# Altium schematic symbol library Interface_I2C.SchLib: 424 symbols (part 6 of 23)
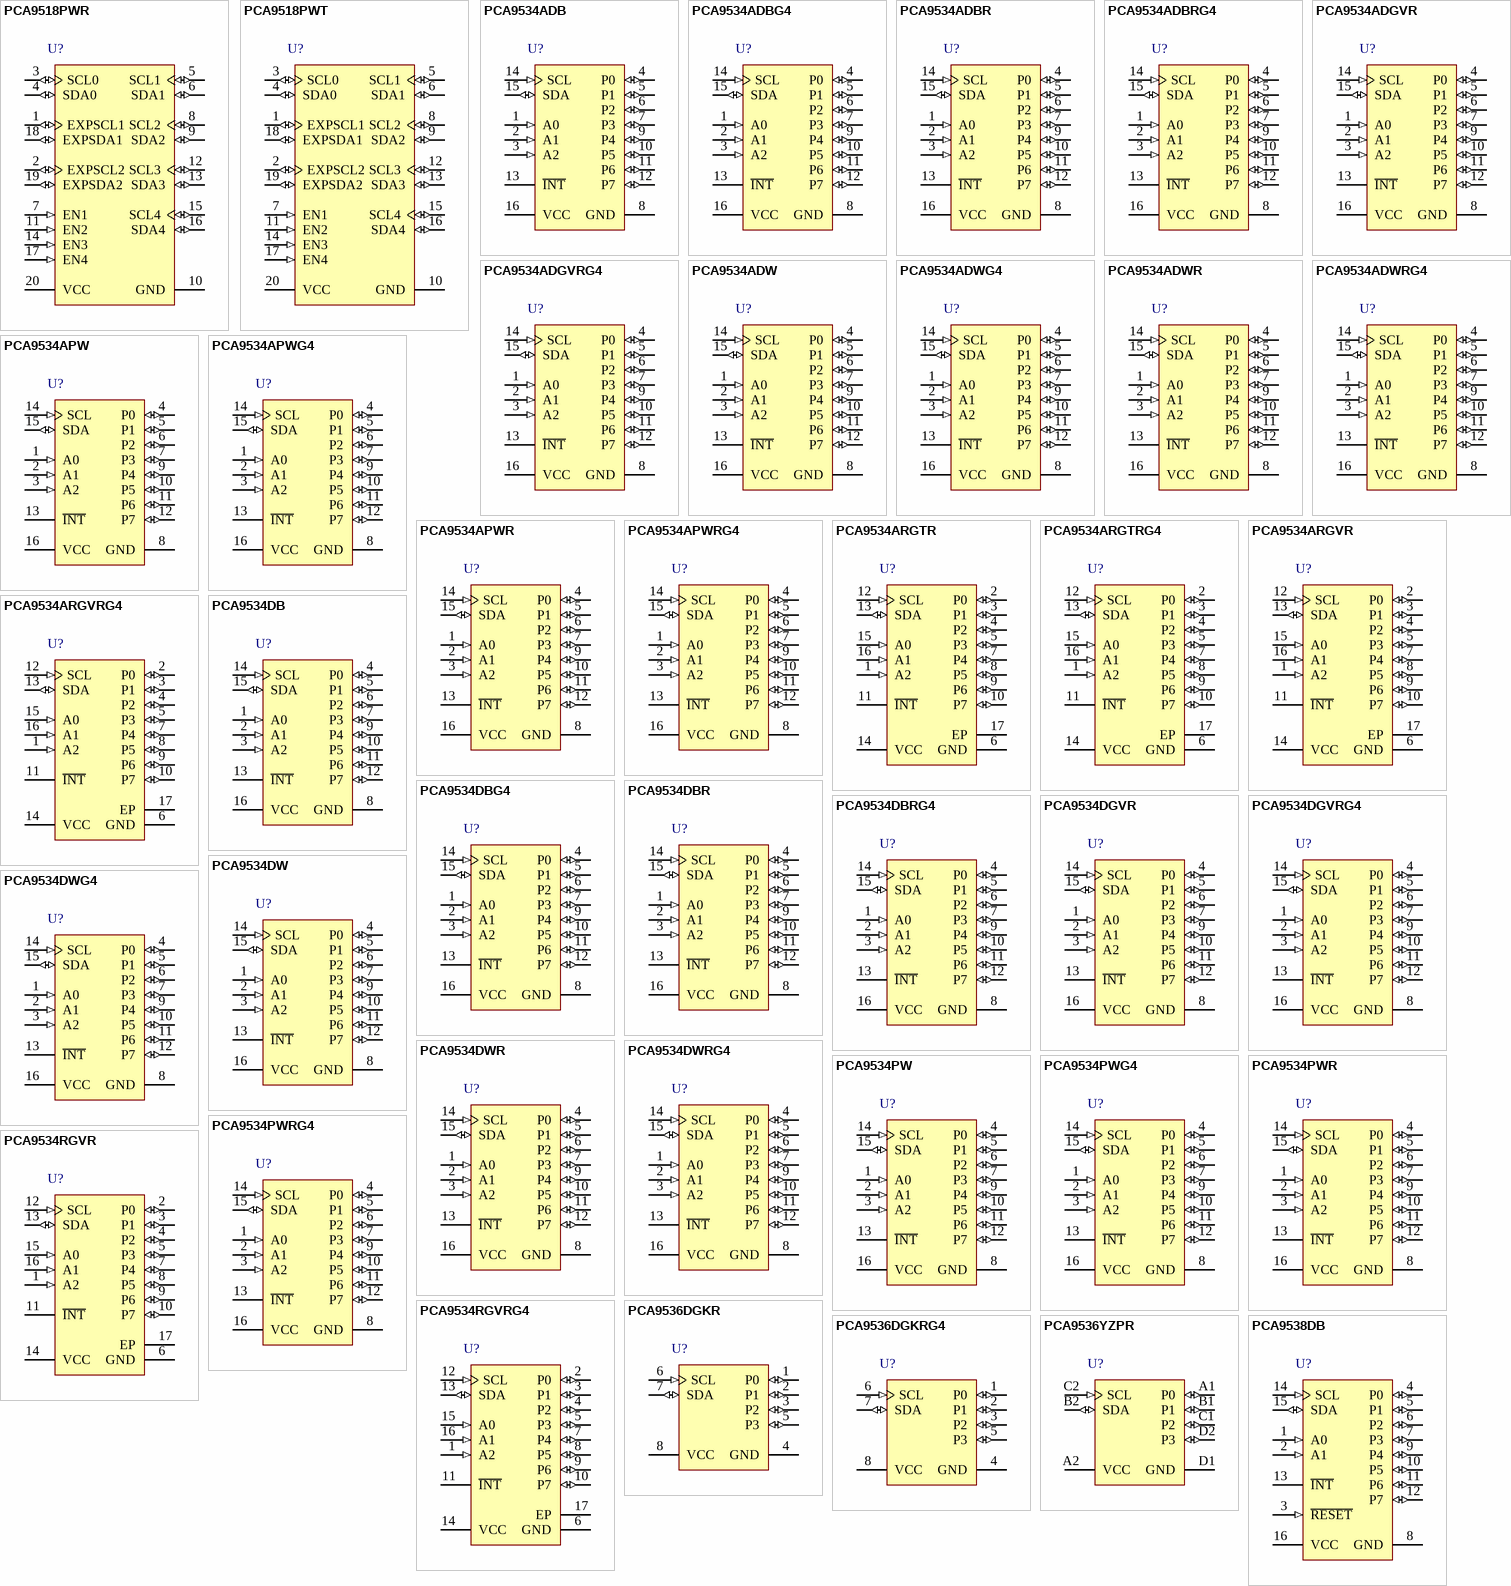
[diagram p18: symbols PCA9518PWR to PCA9538DB]

## PCA9536DGKRG4
designator U?
Remote 4-Bit I2C and SMBus I/O Expander with Configuration Registers, 2.3 to 5.5 V, -40 to 85 degC, 8-pin MSOP (DGK), Green (RoHS & no Sb/Br); Manufacturer: Texas Instruments; PartNumber: PCA9536DGKRG4; SubFamily: I2C IO Expander; fSCLK(Max)(MHz): 400; VCC(Min)(V): 2.3; VCC(Max)(V): 5.5; I2C Address: 1000 001; # of I/Os: 4; Configuration Registers: Yes; DatasheetVersion: SCPS125F; PackageVersion: revE, May-2006; PackageReference: DGK8; PackageDescription: 8-Pin Thin Small Outline Package 3 x 3 mm Body ,0.65 mm Pitch; Supplier 1: Digi-Key; Supplier Part Number 1: PCA9536DGKRG4-ND; Supplier 2: Newark; Supplier Part Number 2: 99K4102; Supplier 3: Mouser; Supplier Part Number 3: 595-PCA9536DGKRG4; Eco-Plan: Green (RoHS & no Sb/Br); Max Frequency(kHz): 400; Vcc range(V): 2.3 to 5.5; 5V Tolerant I/O: Yes; Push-Pull I/O Type: Yes; Mounting Technology: Surface Mount; Code_JEDEC: MO-187-AA; ComponentLink1Description: Datasheet; ComponentLink1URL: http://www.ti.com/general/docs/lit/getliterature.tsp?genericPartNumber=PCA9536&fileType=pdf; ComponentLink2Description: Package Specification; ComponentLink2URL: http://www.ti.com/litv/pdf/msoi002j
footprint DGK8_N (TSOP, 8-Leads, Body 3x3mm, Pitch 0.65mm, IPC Medium Density)
footprint DGK8_L (TSOP, 8-Leads, Body 3x3mm, Pitch 0.65mm, IPC High Density)
footprint DGK8_M (TSOP, 8-Leads, Body 3x3mm, Pitch 0.65mm, IPC Low Density)
pins: 1 P0 (io) "P-port input/output. Push-pull design structure.", 2 P1 (io) "P-port input/output. Push-pull design structure.", 3 P2 (io) "P-port input/output. Push-pull design structure.", 4 GND (power) "Ground", 5 P3 (io) "P-port input/output. Push-pull design structure.", 6 SCL (in) "Serial clock bus. Connect to VCC through a pullup resistor.", 7 SDA (io) "Serial data bus. Connect to VCC through a pullup resistor.", 8 VCC (power) "Supply voltage"

## PCA9536YZPR
designator U?
Remote 4-Bit I2C and SMBus I/O Expander with Configuration Register, 2.3 to 5.5 V, -40 to 85 degC, 8-pin DSBGA (YZP), Green (RoHS & no Sb/Br); Manufacturer: Texas Instruments; PartNumber: PCA9536YZPR; SubFamily: I2C IO Expander; fSCLK(Max)(MHz): 400; VCC(Min)(V): 2.3; VCC(Max)(V): 5.5; I2C Address: 1000 001; # of I/Os: 4; Configuration Registers: Yes; DatasheetVersion: SCPS125F; PackageVersion: revI, Feb-2012; PackageReference: YZP8; PackageDescription: 8-Ball Die-Size Ball Grid Array, 1.9 x 0.9 mm Body, 0.5 mm Pitch, Pb-Free; Supplier 1: Digi-Key; Supplier Part Number 1: 296-24732-2-ND; Supplier 2: Digi-Key; Supplier Part Number 2: 296-24732-1-ND; Supplier 3: Digi-Key; Supplier Part Number 3: 296-24732-6-ND; Supplier 4: Newark; Supplier Part Number 4: 99M5239; Supplier 5: Mouser; Supplier Part Number 5: 595-PCA9536YZPR; Eco-Plan: Green (RoHS & no Sb/Br); Max Frequency(kHz): 400; Vcc range(V): 2.3 to 5.5; 5V Tolerant I/O: Yes; Push-Pull I/O Type: Yes; Mounting Technology: Surface Mount; ComponentLink1Description: Datasheet; ComponentLink1URL: http://www.ti.com/general/docs/lit/getliterature.tsp?genericPartNumber=PCA9536&fileType=pdf; ComponentLink2Description: Package Specification; ComponentLink2URL: http://www.ti.com/litv/pdf/msoi002j
footprint YZP8 (BGA, 8-Leads, Body 1.9x0.9mm, Pitch 0.5mm)
pins: A1 P0 (io) "P-port input/output. Push-pull design structure.", A2 VCC (power) "Supply voltage", B1 P1 (io) "P-port input/output. Push-pull design structure.", B2 SDA (io) "Serial data bus. Connect to VCC through a pullup resistor.", C1 P2 (io) "P-port input/output. Push-pull design structure.", C2 SCL (in) "Serial clock bus. Connect to VCC through a pullup resistor.", D1 GND (power) "Ground", D2 P3 (io) "P-port input/output. Push-pull design structure."

## PCA9538DB
designator U?
Remote 8-Bit I2C and SMBus Low-Power I/O Expander with Interrupt Output, Reset, and Config Registers, 2.3 to 5.5 V, -40 to 85 degC, 16-pin SSOP (DB), Green (RoHS & no Sb/Br); Manufacturer: Texas Instruments; PartNumber: PCA9538DB; SubFamily: I2C IO Expander; Interrupt Output: Yes; Technology Family: I2C, SMBus; fSCLK(Max)(MHz): 0.1, 0.4; VCC(Min)(V): 2.3; VCC(Max)(V): 5.5; Max Frequency(kHz): 400; I2C Address: 1110 0xx; # of I/Os: 8; DatasheetVersion: SCPS126E; PackageVersion: revE, Dec-2001; PackageReference: DB16; PackageDescription: 16-Pin Plastic Small Outline Package, 6.2 x 5.3 mm Body, 0.65 mm Pitch; Supplier 1: Digi-Key; Supplier Part Number 1: PCA9538DB-ND; Supplier 2: Newark; Supplier Part Number 2: 18M7518; Supplier 3: Mouser; Supplier Part Number 3: 595-PCA9538DB; Eco-Plan: Green (RoHS & no Sb/Br); Reset Input: Yes; Vcc range(V): 2.3 to 5.5; Low Power: Yes; Configuration Registers: Yes; 5V Tolerant I/O: Yes; Push-Pull I/O Type: Yes; Mounting Technology: Surface Mount; Code_JEDEC: MO-150; ComponentLink1Description: Datasheet; ComponentLink1URL: http://www.ti.com/general/docs/lit/getliterature.tsp?genericPartNumber=PCA9538&fileType=pdf; ComponentLink2Description: Package Specification; ComponentLink2URL: http://www.ti.com/litv/pdf/msso002e
footprint DB16_N (SOP, 16-Leads, Body 6.2x5.3mm, Pitch 0.65mm, IPC Medium Density)
footprint DB16_L (SOP, 16-Leads, Body 6.2x5.3mm, Pitch 0.65mm, IPC High Density)
footprint DB16_M (SOP, 16-Leads, Body 6.2x5.3mm, Pitch 0.65mm, IPC Low Density)
pins: 1 A0 (in) "Address input. Connect directly to VCC or ground.", 2 A1 (in) "Address input. Connect directly to VCC or ground.", 3 ~{RESET} (in) "Active-low reset input. Connect to VCC  through a pullup resistor, if no active connection is used.", 4 P0 (io) "P-port input/output. Push-pull design structure.", 5 P1 (io) "P-port input/output. Push-pull design structure.", 6 P2 (io) "P-port input/output. Push-pull design structure.", 7 P3 (io) "P-port input/output. Push-pull design structure.", 8 GND (power) "Ground", 9 P4 (io) "P-port input/output. Push-pull design structure.", 10 P5 (io) "P-port input/output. Push-pull design structure.", 11 P6 (io) "P-port input/output. Push-pull design structure.", 12 P7 (io) "P-port input/output. Push-pull design structure.", 13 ~{INT} (oc) "Interrupt output. Connect to VCC through a pullup resistor.", 14 SCL (in) "Serial clock bus. Connect to VCC through a pullup resistor.", 15 SDA (io) "Serial data bus. Connect to VCC through a pullup resistor.", 16 VCC (power) "Supply voltage"

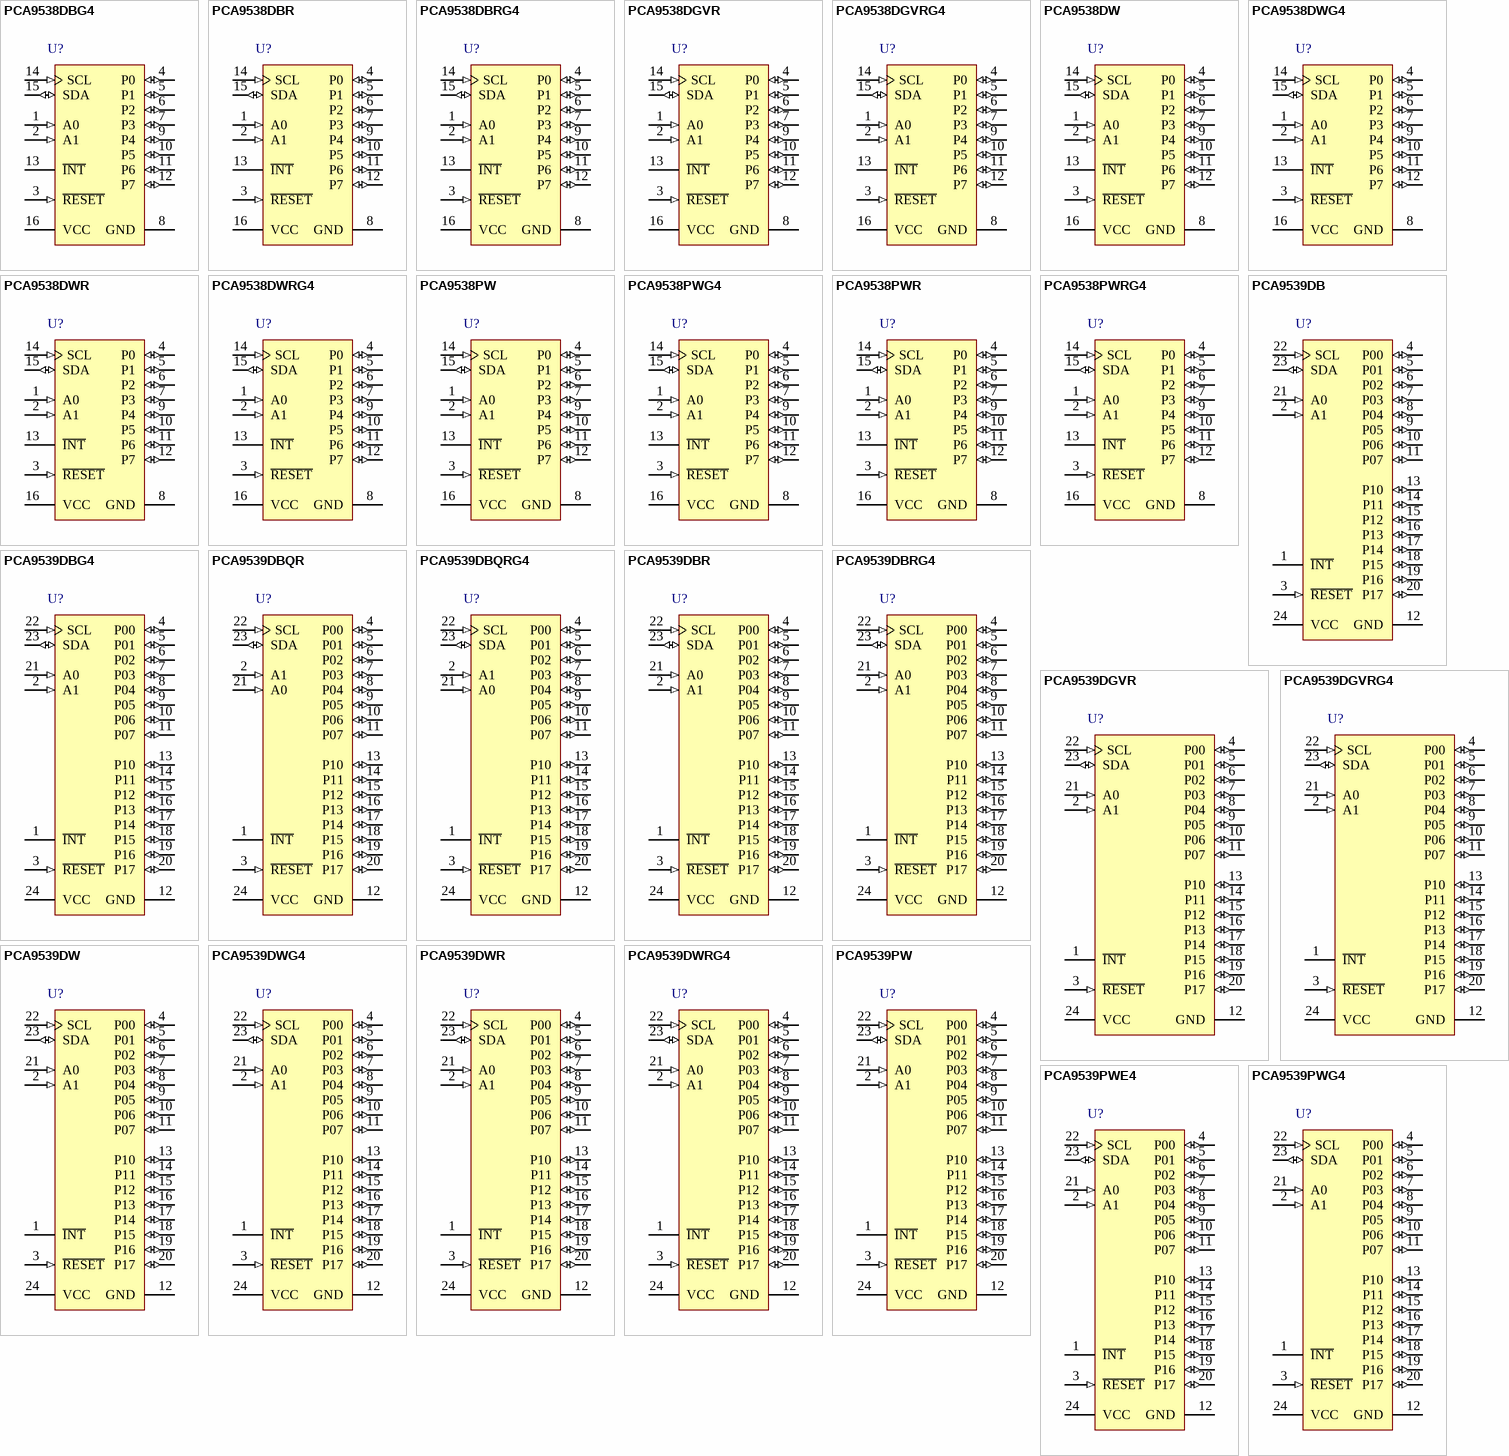
[diagram p3: symbols PCA9538DBG4 to PCA9539PWG4]

## PCA9538DBG4
designator U?
Remote 8-Bit I2C and SMBus Low-Power I/O Expander with Interrupt Output, Reset, and Config Registers, 2.3 to 5.5 V, -40 to 85 degC, 16-pin SSOP (DB), Green (RoHS & no Sb/Br); Manufacturer: Texas Instruments; PartNumber: PCA9538DBG4; SubFamily: I2C IO Expander; Interrupt Output: Yes; Technology Family: I2C, SMBus; fSCLK(Max)(MHz): 0.1, 0.4; VCC(Min)(V): 2.3; VCC(Max)(V): 5.5; Max Frequency(kHz): 400; I2C Address: 1110 0xx; # of I/Os: 8; DatasheetVersion: SCPS126E; PackageVersion: revE, Dec-2001; PackageReference: DB16; PackageDescription: 16-Pin Plastic Small Outline Package, 6.2 x 5.3 mm Body, 0.65 mm Pitch; Supplier 1: Digi-Key; Supplier Part Number 1: PCA9538DBG4-ND; Supplier 2: Mouser; Supplier Part Number 2: 595-PCA9538DBG4; Eco-Plan: Green (RoHS & no Sb/Br); Reset Input: Yes; Vcc range(V): 2.3 to 5.5; Low Power: Yes; Configuration Registers: Yes; 5V Tolerant I/O: Yes; Push-Pull I/O Type: Yes; Mounting Technology: Surface Mount; Code_JEDEC: MO-150; ComponentLink1Description: Datasheet; ComponentLink1URL: http://www.ti.com/general/docs/lit/getliterature.tsp?genericPartNumber=PCA9538&fileType=pdf; ComponentLink2Description: Package Specification; ComponentLink2URL: http://www.ti.com/litv/pdf/msso002e
footprint DB16_N (SOP, 16-Leads, Body 6.2x5.3mm, Pitch 0.65mm, IPC Medium Density)
footprint DB16_L (SOP, 16-Leads, Body 6.2x5.3mm, Pitch 0.65mm, IPC High Density)
footprint DB16_M (SOP, 16-Leads, Body 6.2x5.3mm, Pitch 0.65mm, IPC Low Density)
pins: 1 A0 (in) "Address input. Connect directly to VCC or ground.", 2 A1 (in) "Address input. Connect directly to VCC or ground.", 3 ~{RESET} (in) "Active-low reset input. Connect to VCC  through a pullup resistor, if no active connection is used.", 4 P0 (io) "P-port input/output. Push-pull design structure.", 5 P1 (io) "P-port input/output. Push-pull design structure.", 6 P2 (io) "P-port input/output. Push-pull design structure.", 7 P3 (io) "P-port input/output. Push-pull design structure.", 8 GND (power) "Ground", 9 P4 (io) "P-port input/output. Push-pull design structure.", 10 P5 (io) "P-port input/output. Push-pull design structure.", 11 P6 (io) "P-port input/output. Push-pull design structure.", 12 P7 (io) "P-port input/output. Push-pull design structure.", 13 ~{INT} (oc) "Interrupt output. Connect to VCC through a pullup resistor.", 14 SCL (in) "Serial clock bus. Connect to VCC through a pullup resistor.", 15 SDA (io) "Serial data bus. Connect to VCC through a pullup resistor.", 16 VCC (power) "Supply voltage"

## PCA9538DBR
designator U?
Remote 8-Bit I2C and SMBus Low-Power I/O Expander with Interrupt Output, Reset, and Config Registers, 2.3 to 5.5 V, -40 to 85 degC, 16-pin SSOP (DB), Green (RoHS & no Sb/Br); Manufacturer: Texas Instruments; PartNumber: PCA9538DBR; SubFamily: I2C IO Expander; Interrupt Output: Yes; Technology Family: I2C, SMBus; fSCLK(Max)(MHz): 0.1, 0.4; VCC(Min)(V): 2.3; VCC(Max)(V): 5.5; Max Frequency(kHz): 400; I2C Address: 1110 0xx; # of I/Os: 8; DatasheetVersion: SCPS126E; PackageVersion: revE, Dec-2001; PackageReference: DB16; PackageDescription: 16-Pin Plastic Small Outline Package, 6.2 x 5.3 mm Body, 0.65 mm Pitch; Supplier 1: Digi-Key; Supplier Part Number 1: 296-21766-2-ND; Supplier 2: Digi-Key; Supplier Part Number 2: 296-21766-1-ND; Supplier 3: Digi-Key; Supplier Part Number 3: 296-21766-6-ND; Supplier 4: Mouser; Supplier Part Number 4: 595-PCA9538DBR; Eco-Plan: Green (RoHS & no Sb/Br); Reset Input: Yes; Vcc range(V): 2.3 to 5.5; Low Power: Yes; Configuration Registers: Yes; 5V Tolerant I/O: Yes; Push-Pull I/O Type: Yes; Mounting Technology: Surface Mount; Code_JEDEC: MO-150; ComponentLink1Description: Datasheet; ComponentLink1URL: http://www.ti.com/general/docs/lit/getliterature.tsp?genericPartNumber=PCA9538&fileType=pdf; ComponentLink2Description: Package Specification; ComponentLink2URL: http://www.ti.com/litv/pdf/msso002e
footprint DB16_N (SOP, 16-Leads, Body 6.2x5.3mm, Pitch 0.65mm, IPC Medium Density)
footprint DB16_L (SOP, 16-Leads, Body 6.2x5.3mm, Pitch 0.65mm, IPC High Density)
footprint DB16_M (SOP, 16-Leads, Body 6.2x5.3mm, Pitch 0.65mm, IPC Low Density)
pins: 1 A0 (in) "Address input. Connect directly to VCC or ground.", 2 A1 (in) "Address input. Connect directly to VCC or ground.", 3 ~{RESET} (in) "Active-low reset input. Connect to VCC  through a pullup resistor, if no active connection is used.", 4 P0 (io) "P-port input/output. Push-pull design structure.", 5 P1 (io) "P-port input/output. Push-pull design structure.", 6 P2 (io) "P-port input/output. Push-pull design structure.", 7 P3 (io) "P-port input/output. Push-pull design structure.", 8 GND (power) "Ground", 9 P4 (io) "P-port input/output. Push-pull design structure.", 10 P5 (io) "P-port input/output. Push-pull design structure.", 11 P6 (io) "P-port input/output. Push-pull design structure.", 12 P7 (io) "P-port input/output. Push-pull design structure.", 13 ~{INT} (oc) "Interrupt output. Connect to VCC through a pullup resistor.", 14 SCL (in) "Serial clock bus. Connect to VCC through a pullup resistor.", 15 SDA (io) "Serial data bus. Connect to VCC through a pullup resistor.", 16 VCC (power) "Supply voltage"

## PCA9538DBRG4
designator U?
Remote 8-Bit I2C and SMBus Low-Power I/O Expander with Interrupt Output, Reset, and Config Registers, 2.3 to 5.5 V, -40 to 85 degC, 16-pin SSOP (DB), Green (RoHS & no Sb/Br); Manufacturer: Texas Instruments; PartNumber: PCA9538DBRG4; SubFamily: I2C IO Expander; Interrupt Output: Yes; Technology Family: I2C, SMBus; fSCLK(Max)(MHz): 0.1, 0.4; VCC(Min)(V): 2.3; VCC(Max)(V): 5.5; Max Frequency(kHz): 400; I2C Address: 1110 0xx; # of I/Os: 8; DatasheetVersion: SCPS126E; PackageVersion: revE, Dec-2001; PackageReference: DB16; PackageDescription: 16-Pin Plastic Small Outline Package, 6.2 x 5.3 mm Body, 0.65 mm Pitch; Supplier 1: Digi-Key; Supplier Part Number 1: PCA9538DBRG4-ND; Supplier 2: Mouser; Supplier Part Number 2: 595-PCA9538DBRG4; Eco-Plan: Green (RoHS & no Sb/Br); Reset Input: Yes; Vcc range(V): 2.3 to 5.5; Low Power: Yes; Configuration Registers: Yes; 5V Tolerant I/O: Yes; Push-Pull I/O Type: Yes; Mounting Technology: Surface Mount; Code_JEDEC: MO-150; ComponentLink1Description: Datasheet; ComponentLink1URL: http://www.ti.com/general/docs/lit/getliterature.tsp?genericPartNumber=PCA9538&fileType=pdf; ComponentLink2Description: Package Specification; ComponentLink2URL: http://www.ti.com/litv/pdf/msso002e
footprint DB16_N (SOP, 16-Leads, Body 6.2x5.3mm, Pitch 0.65mm, IPC Medium Density)
footprint DB16_L (SOP, 16-Leads, Body 6.2x5.3mm, Pitch 0.65mm, IPC High Density)
footprint DB16_M (SOP, 16-Leads, Body 6.2x5.3mm, Pitch 0.65mm, IPC Low Density)
pins: 1 A0 (in) "Address input. Connect directly to VCC or ground.", 2 A1 (in) "Address input. Connect directly to VCC or ground.", 3 ~{RESET} (in) "Active-low reset input. Connect to VCC  through a pullup resistor, if no active connection is used.", 4 P0 (io) "P-port input/output. Push-pull design structure.", 5 P1 (io) "P-port input/output. Push-pull design structure.", 6 P2 (io) "P-port input/output. Push-pull design structure.", 7 P3 (io) "P-port input/output. Push-pull design structure.", 8 GND (power) "Ground", 9 P4 (io) "P-port input/output. Push-pull design structure.", 10 P5 (io) "P-port input/output. Push-pull design structure.", 11 P6 (io) "P-port input/output. Push-pull design structure.", 12 P7 (io) "P-port input/output. Push-pull design structure.", 13 ~{INT} (oc) "Interrupt output. Connect to VCC through a pullup resistor.", 14 SCL (in) "Serial clock bus. Connect to VCC through a pullup resistor.", 15 SDA (io) "Serial data bus. Connect to VCC through a pullup resistor.", 16 VCC (power) "Supply voltage"

## PCA9538DGVR
designator U?
Remote 8-Bit I2C and SMBus Low-Power I/O Expander with Interrupt Output, Reset, and Config Registers, 2.3 to 5.5 V, -40 to 85 degC, 16-pin TVSOP (DGV), Green (RoHS & no Sb/Br); Manufacturer: Texas Instruments; PartNumber: PCA9538DGVR; SubFamily: I2C IO Expander; Interrupt Output: Yes; Technology Family: I2C, SMBus; fSCLK(Max)(MHz): 0.1, 0.4; VCC(Min)(V): 2.3; VCC(Max)(V): 5.5; Max Frequency(kHz): 400; I2C Address: 1110 0xx; # of I/Os: 8; DatasheetVersion: SCPS126E; PackageVersion: revE, Aug-2000; PackageReference: DGV16; PackageDescription: 16-Pin Thin Shrink Small Outline Package 0.4 mm Pitch; Supplier 1: Digi-Key; Supplier Part Number 1: 296-21767-2-ND; Supplier 2: Digi-Key; Supplier Part Number 2: 296-21767-1-ND; Supplier 3: Digi-Key; Supplier Part Number 3: 296-21767-6-ND; Supplier 4: Mouser; Supplier Part Number 4: 595-PCA9538DGVR; Eco-Plan: Green (RoHS & no Sb/Br); Reset Input: Yes; Vcc range(V): 2.3 to 5.5; Low Power: Yes; Configuration Registers: Yes; 5V Tolerant I/O: Yes; Push-Pull I/O Type: Yes; Mounting Technology: Surface Mount; Code_JEDEC: MO-194; ComponentLink1Description: Datasheet; ComponentLink1URL: http://www.ti.com/general/docs/lit/getliterature.tsp?genericPartNumber=PCA9538&fileType=pdf; ComponentLink2Description: Package Specification; ComponentLink2URL: http://www.ti.com/litv/pdf/msso002e
footprint DGV16_N (TSSOP, 16-Leads, Body 3.6x4.4mm, Pitch 0.4mm, IPC Medium Density)
footprint DGV16_L (TSSOP, 16-Leads, Body 3.6x4.4mm, Pitch 0.4mm, IPC High Density)
footprint DGV16_M (TSSOP, 16-Leads, Body 3.6x4.4mm, Pitch 0.4mm, IPC Low Density)
pins: 1 A0 (in) "Address input. Connect directly to VCC or ground.", 2 A1 (in) "Address input. Connect directly to VCC or ground.", 3 ~{RESET} (in) "Active-low reset input. Connect to VCC  through a pullup resistor, if no active connection is used.", 4 P0 (io) "P-port input/output. Push-pull design structure.", 5 P1 (io) "P-port input/output. Push-pull design structure.", 6 P2 (io) "P-port input/output. Push-pull design structure.", 7 P3 (io) "P-port input/output. Push-pull design structure.", 8 GND (power) "Ground", 9 P4 (io) "P-port input/output. Push-pull design structure.", 10 P5 (io) "P-port input/output. Push-pull design structure.", 11 P6 (io) "P-port input/output. Push-pull design structure.", 12 P7 (io) "P-port input/output. Push-pull design structure.", 13 ~{INT} (oc) "Interrupt output. Connect to VCC through a pullup resistor.", 14 SCL (in) "Serial clock bus. Connect to VCC through a pullup resistor.", 15 SDA (io) "Serial data bus. Connect to VCC through a pullup resistor.", 16 VCC (power) "Supply voltage"

## PCA9538DGVRG4
designator U?
Remote 8-Bit I2C and SMBus Low-Power I/O Expander with Interrupt Output, Reset, and Config Registers, 2.3 to 5.5 V, -40 to 85 degC, 16-pin TVSOP (DGV), Green (RoHS & no Sb/Br); Manufacturer: Texas Instruments; PartNumber: PCA9538DGVRG4; SubFamily: I2C IO Expander; Interrupt Output: Yes; Technology Family: I2C, SMBus; fSCLK(Max)(MHz): 0.1, 0.4; VCC(Min)(V): 2.3; VCC(Max)(V): 5.5; Max Frequency(kHz): 400; I2C Address: 1110 0xx; # of I/Os: 8; DatasheetVersion: SCPS126E; PackageVersion: revE, Aug-2000; PackageReference: DGV16; PackageDescription: 16-Pin Thin Shrink Small Outline Package 0.4 mm Pitch; Supplier 1: Digi-Key; Supplier Part Number 1: PCA9538DGVRG4-ND; Supplier 2: Mouser; Supplier Part Number 2: 595-PCA9538DGVRG4; Eco-Plan: Green (RoHS & no Sb/Br); Reset Input: Yes; Vcc range(V): 2.3 to 5.5; Low Power: Yes; Configuration Registers: Yes; 5V Tolerant I/O: Yes; Push-Pull I/O Type: Yes; Mounting Technology: Surface Mount; Code_JEDEC: MO-194; ComponentLink1Description: Datasheet; ComponentLink1URL: http://www.ti.com/general/docs/lit/getliterature.tsp?genericPartNumber=PCA9538&fileType=pdf; ComponentLink2Description: Package Specification; ComponentLink2URL: http://www.ti.com/litv/pdf/msso002e
footprint DGV16_N (TSSOP, 16-Leads, Body 3.6x4.4mm, Pitch 0.4mm, IPC Medium Density)
footprint DGV16_L (TSSOP, 16-Leads, Body 3.6x4.4mm, Pitch 0.4mm, IPC High Density)
footprint DGV16_M (TSSOP, 16-Leads, Body 3.6x4.4mm, Pitch 0.4mm, IPC Low Density)
pins: 1 A0 (in) "Address input. Connect directly to VCC or ground.", 2 A1 (in) "Address input. Connect directly to VCC or ground.", 3 ~{RESET} (in) "Active-low reset input. Connect to VCC  through a pullup resistor, if no active connection is used.", 4 P0 (io) "P-port input/output. Push-pull design structure.", 5 P1 (io) "P-port input/output. Push-pull design structure.", 6 P2 (io) "P-port input/output. Push-pull design structure.", 7 P3 (io) "P-port input/output. Push-pull design structure.", 8 GND (power) "Ground", 9 P4 (io) "P-port input/output. Push-pull design structure.", 10 P5 (io) "P-port input/output. Push-pull design structure.", 11 P6 (io) "P-port input/output. Push-pull design structure.", 12 P7 (io) "P-port input/output. Push-pull design structure.", 13 ~{INT} (oc) "Interrupt output. Connect to VCC through a pullup resistor.", 14 SCL (in) "Serial clock bus. Connect to VCC through a pullup resistor.", 15 SDA (io) "Serial data bus. Connect to VCC through a pullup resistor.", 16 VCC (power) "Supply voltage"

## PCA9538DW
designator U?
Remote 8-Bit I2C and SMBus Low-Power I/O Expander with Interrupt Output, Reset, and Config Registers, 2.3 to 5.5 V, -40 to 85 degC, 16-pin SOIC (DW), Green (RoHS & no Sb/Br); Manufacturer: Texas Instruments; PartNumber: PCA9538DW; SubFamily: I2C IO Expander; Interrupt Output: Yes; Technology Family: I2C, SMBus; fSCLK(Max)(MHz): 0.1, 0.4; VCC(Min)(V): 2.3; VCC(Max)(V): 5.5; Max Frequency(kHz): 400; I2C Address: 1110 0xx; # of I/Os: 8; DatasheetVersion: SCPS126E; PackageVersion: revG, Jan-2011; PackageReference: DW16; PackageDescription: 16-Pin Small Outline Integrated Circuit, 10.3 x 7.5 mm, Pitch 1.27 mm Pitch; Supplier 1: Digi-Key; Supplier Part Number 1: PCA9538DW-ND; Supplier 2: Farnell; Supplier Part Number 2: 1575006; Supplier 3: Newark; Supplier Part Number 3: 27M0461; Supplier 4: Mouser; Supplier Part Number 4: 595-PCA9538DW; Eco-Plan: Green (RoHS & no Sb/Br); Reset Input: Yes; Vcc range(V): 2.3 to 5.5; Low Power: Yes; Configuration Registers: Yes; 5V Tolerant I/O: Yes; Push-Pull I/O Type: Yes; Mounting Technology: Surface Mount; Code_JEDEC: MS-013-AA; ComponentLink1Description: Datasheet; ComponentLink1URL: http://www.ti.com/general/docs/lit/getliterature.tsp?genericPartNumber=PCA9538&fileType=pdf; ComponentLink2Description: Package Specification; ComponentLink2URL: http://www.ti.com/litv/pdf/msoi003g
footprint DW16_N (SOIC, 16-Leads, Body 10.3x7.5mm, Pitch 1.27mm, IPC Medium Density)
footprint DW16_L (SOIC, 16-Leads, Body 10.3x7.5mm, Pitch 1.27mm, IPC High Density)
footprint DW16_M (SOIC, 16-Leads, Body 10.3x7.5mm, Pitch 1.27mm, IPC Low Density)
pins: 1 A0 (in) "Address input. Connect directly to VCC or ground.", 2 A1 (in) "Address input. Connect directly to VCC or ground.", 3 ~{RESET} (in) "Active-low reset input. Connect to VCC  through a pullup resistor, if no active connection is used.", 4 P0 (io) "P-port input/output. Push-pull design structure.", 5 P1 (io) "P-port input/output. Push-pull design structure.", 6 P2 (io) "P-port input/output. Push-pull design structure.", 7 P3 (io) "P-port input/output. Push-pull design structure.", 8 GND (power) "Ground", 9 P4 (io) "P-port input/output. Push-pull design structure.", 10 P5 (io) "P-port input/output. Push-pull design structure.", 11 P6 (io) "P-port input/output. Push-pull design structure.", 12 P7 (io) "P-port input/output. Push-pull design structure.", 13 ~{INT} (oc) "Interrupt output. Connect to VCC through a pullup resistor.", 14 SCL (in) "Serial clock bus. Connect to VCC through a pullup resistor.", 15 SDA (io) "Serial data bus. Connect to VCC through a pullup resistor.", 16 VCC (power) "Supply voltage"

## PCA9538DWG4
designator U?
Remote 8-Bit I2C and SMBus Low-Power I/O Expander with Interrupt Output, Reset, and Config Registers, 2.3 to 5.5 V, -40 to 85 degC, 16-pin SOIC (DW), Green (RoHS & no Sb/Br); Manufacturer: Texas Instruments; PartNumber: PCA9538DWG4; SubFamily: I2C IO Expander; Interrupt Output: Yes; Technology Family: I2C, SMBus; fSCLK(Max)(MHz): 0.1, 0.4; VCC(Min)(V): 2.3; VCC(Max)(V): 5.5; Max Frequency(kHz): 400; I2C Address: 1110 0xx; # of I/Os: 8; DatasheetVersion: SCPS126E; PackageVersion: revG, Jan-2011; PackageReference: DW16; PackageDescription: 16-Pin Small Outline Integrated Circuit, 10.3 x 7.5 mm, Pitch 1.27 mm Pitch; Supplier 1: Digi-Key; Supplier Part Number 1: PCA9538DWG4-ND; Supplier 2: Mouser; Supplier Part Number 2: 595-PCA9538DWG4; Eco-Plan: Green (RoHS & no Sb/Br); Reset Input: Yes; Vcc range(V): 2.3 to 5.5; Low Power: Yes; Configuration Registers: Yes; 5V Tolerant I/O: Yes; Push-Pull I/O Type: Yes; Mounting Technology: Surface Mount; Code_JEDEC: MS-013-AA; ComponentLink1Description: Datasheet; ComponentLink1URL: http://www.ti.com/general/docs/lit/getliterature.tsp?genericPartNumber=PCA9538&fileType=pdf; ComponentLink2Description: Package Specification; ComponentLink2URL: http://www.ti.com/litv/pdf/msoi003g
footprint DW16_N (SOIC, 16-Leads, Body 10.3x7.5mm, Pitch 1.27mm, IPC Medium Density)
footprint DW16_L (SOIC, 16-Leads, Body 10.3x7.5mm, Pitch 1.27mm, IPC High Density)
footprint DW16_M (SOIC, 16-Leads, Body 10.3x7.5mm, Pitch 1.27mm, IPC Low Density)
pins: 1 A0 (in) "Address input. Connect directly to VCC or ground.", 2 A1 (in) "Address input. Connect directly to VCC or ground.", 3 ~{RESET} (in) "Active-low reset input. Connect to VCC  through a pullup resistor, if no active connection is used.", 4 P0 (io) "P-port input/output. Push-pull design structure.", 5 P1 (io) "P-port input/output. Push-pull design structure.", 6 P2 (io) "P-port input/output. Push-pull design structure.", 7 P3 (io) "P-port input/output. Push-pull design structure.", 8 GND (power) "Ground", 9 P4 (io) "P-port input/output. Push-pull design structure.", 10 P5 (io) "P-port input/output. Push-pull design structure.", 11 P6 (io) "P-port input/output. Push-pull design structure.", 12 P7 (io) "P-port input/output. Push-pull design structure.", 13 ~{INT} (oc) "Interrupt output. Connect to VCC through a pullup resistor.", 14 SCL (in) "Serial clock bus. Connect to VCC through a pullup resistor.", 15 SDA (io) "Serial data bus. Connect to VCC through a pullup resistor.", 16 VCC (power) "Supply voltage"

## PCA9538DWR
designator U?
Remote 8-Bit I2C and SMBus Low-Power I/O Expander with Interrupt Output, Reset, and Config Registers, 2.3 to 5.5 V, -40 to 85 degC, 16-pin SOIC (DW), Green (RoHS & no Sb/Br); Manufacturer: Texas Instruments; PartNumber: PCA9538DWR; SubFamily: I2C IO Expander; Interrupt Output: Yes; Technology Family: I2C, SMBus; fSCLK(Max)(MHz): 0.1, 0.4; VCC(Min)(V): 2.3; VCC(Max)(V): 5.5; Max Frequency(kHz): 400; I2C Address: 1110 0xx; # of I/Os: 8; DatasheetVersion: SCPS126E; PackageVersion: revG, Jan-2011; PackageReference: DW16; PackageDescription: 16-Pin Small Outline Integrated Circuit, 10.3 x 7.5 mm, Pitch 1.27 mm Pitch; Supplier 1: Digi-Key; Supplier Part Number 1: 296-21768-2-ND; Supplier 2: Digi-Key; Supplier Part Number 2: 296-21768-1-ND; Supplier 3: Digi-Key; Supplier Part Number 3: 296-21768-6-ND; Supplier 4: Farnell; Supplier Part Number 4: 1575007; Supplier 5: Mouser; Supplier Part Number 5: 595-PCA9538DWR; Eco-Plan: Green (RoHS & no Sb/Br); Reset Input: Yes; Vcc range(V): 2.3 to 5.5; Low Power: Yes; Configuration Registers: Yes; 5V Tolerant I/O: Yes; Push-Pull I/O Type: Yes; Mounting Technology: Surface Mount; Code_JEDEC: MS-013-AA; ComponentLink1Description: Datasheet; ComponentLink1URL: http://www.ti.com/general/docs/lit/getliterature.tsp?genericPartNumber=PCA9538&fileType=pdf; ComponentLink2Description: Package Specification; ComponentLink2URL: http://www.ti.com/litv/pdf/msoi003g
footprint DW16_N (SOIC, 16-Leads, Body 10.3x7.5mm, Pitch 1.27mm, IPC Medium Density)
footprint DW16_L (SOIC, 16-Leads, Body 10.3x7.5mm, Pitch 1.27mm, IPC High Density)
footprint DW16_M (SOIC, 16-Leads, Body 10.3x7.5mm, Pitch 1.27mm, IPC Low Density)
pins: 1 A0 (in) "Address input. Connect directly to VCC or ground.", 2 A1 (in) "Address input. Connect directly to VCC or ground.", 3 ~{RESET} (in) "Active-low reset input. Connect to VCC  through a pullup resistor, if no active connection is used.", 4 P0 (io) "P-port input/output. Push-pull design structure.", 5 P1 (io) "P-port input/output. Push-pull design structure.", 6 P2 (io) "P-port input/output. Push-pull design structure.", 7 P3 (io) "P-port input/output. Push-pull design structure.", 8 GND (power) "Ground", 9 P4 (io) "P-port input/output. Push-pull design structure.", 10 P5 (io) "P-port input/output. Push-pull design structure.", 11 P6 (io) "P-port input/output. Push-pull design structure.", 12 P7 (io) "P-port input/output. Push-pull design structure.", 13 ~{INT} (oc) "Interrupt output. Connect to VCC through a pullup resistor.", 14 SCL (in) "Serial clock bus. Connect to VCC through a pullup resistor.", 15 SDA (io) "Serial data bus. Connect to VCC through a pullup resistor.", 16 VCC (power) "Supply voltage"

## PCA9538DWRG4
designator U?
Remote 8-Bit I2C and SMBus Low-Power I/O Expander with Interrupt Output, Reset, and Config Registers, 2.3 to 5.5 V, -40 to 85 degC, 16-pin SOIC (DW), Green (RoHS & no Sb/Br); Manufacturer: Texas Instruments; PartNumber: PCA9538DWRG4; SubFamily: I2C IO Expander; Interrupt Output: Yes; Technology Family: I2C, SMBus; fSCLK(Max)(MHz): 0.1, 0.4; VCC(Min)(V): 2.3; VCC(Max)(V): 5.5; Max Frequency(kHz): 400; I2C Address: 1110 0xx; # of I/Os: 8; DatasheetVersion: SCPS126E; PackageVersion: revG, Jan-2011; PackageReference: DW16; PackageDescription: 16-Pin Small Outline Integrated Circuit, 10.3 x 7.5 mm, Pitch 1.27 mm Pitch; Supplier 1: Digi-Key; Supplier Part Number 1: PCA9538DWRG4-ND; Supplier 2: Mouser; Supplier Part Number 2: 595-PCA9538DWRG4; Eco-Plan: Green (RoHS & no Sb/Br); Reset Input: Yes; Vcc range(V): 2.3 to 5.5; Low Power: Yes; Configuration Registers: Yes; 5V Tolerant I/O: Yes; Push-Pull I/O Type: Yes; Mounting Technology: Surface Mount; Code_JEDEC: MS-013-AA; ComponentLink1Description: Datasheet; ComponentLink1URL: http://www.ti.com/general/docs/lit/getliterature.tsp?genericPartNumber=PCA9538&fileType=pdf; ComponentLink2Description: Package Specification; ComponentLink2URL: http://www.ti.com/litv/pdf/msoi003g
footprint DW16_N (SOIC, 16-Leads, Body 10.3x7.5mm, Pitch 1.27mm, IPC Medium Density)
footprint DW16_L (SOIC, 16-Leads, Body 10.3x7.5mm, Pitch 1.27mm, IPC High Density)
footprint DW16_M (SOIC, 16-Leads, Body 10.3x7.5mm, Pitch 1.27mm, IPC Low Density)
pins: 1 A0 (in) "Address input. Connect directly to VCC or ground.", 2 A1 (in) "Address input. Connect directly to VCC or ground.", 3 ~{RESET} (in) "Active-low reset input. Connect to VCC  through a pullup resistor, if no active connection is used.", 4 P0 (io) "P-port input/output. Push-pull design structure.", 5 P1 (io) "P-port input/output. Push-pull design structure.", 6 P2 (io) "P-port input/output. Push-pull design structure.", 7 P3 (io) "P-port input/output. Push-pull design structure.", 8 GND (power) "Ground", 9 P4 (io) "P-port input/output. Push-pull design structure.", 10 P5 (io) "P-port input/output. Push-pull design structure.", 11 P6 (io) "P-port input/output. Push-pull design structure.", 12 P7 (io) "P-port input/output. Push-pull design structure.", 13 ~{INT} (oc) "Interrupt output. Connect to VCC through a pullup resistor.", 14 SCL (in) "Serial clock bus. Connect to VCC through a pullup resistor.", 15 SDA (io) "Serial data bus. Connect to VCC through a pullup resistor.", 16 VCC (power) "Supply voltage"

## PCA9538PW
designator U?
Remote 8-Bit I2C and SMBus Low-Power I/O Expander with Interrupt Output, Reset, and Config Registers, 2.3 to 5.5 V, -40 to 85 degC, 16-pin TSSOP (PW), Green (RoHS & no Sb/Br); Manufacturer: Texas Instruments; PartNumber: PCA9538PW; SubFamily: I2C IO Expander; Interrupt Output: Yes; Technology Family: I2C, SMBus; fSCLK(Max)(MHz): 0.1, 0.4; VCC(Min)(V): 2.3; VCC(Max)(V): 5.5; Max Frequency(kHz): 400; I2C Address: 1110 0xx; # of I/Os: 8; DatasheetVersion: SCPS126E; PackageVersion: revG, Feb-2011; PackageReference: PW16; PackageDescription: 16-Pin Plastic Thin Small Outline Package 5 x 4.4 mm Body ,0.65 mm Pitch; Supplier 1: Digi-Key; Supplier Part Number 1: PCA9538PWTI-ND; Supplier 2: Farnell; Supplier Part Number 2: 2124836; Supplier 3: Newark; Supplier Part Number 3: 18M7521; Supplier 4: Mouser; Supplier Part Number 4: 595-PCA9538PW; Eco-Plan: Green (RoHS & no Sb/Br); Reset Input: Yes; Vcc range(V): 2.3 to 5.5; Low Power: Yes; Configuration Registers: Yes; 5V Tolerant I/O: Yes; Push-Pull I/O Type: Yes; Mounting Technology: Surface Mount; Code_JEDEC: MO-153; ComponentLink1Description: Datasheet; ComponentLink1URL: http://www.ti.com/general/docs/lit/getliterature.tsp?genericPartNumber=PCA9538&fileType=pdf
footprint PW16_N (TSOP, 16-Leads, Body 5x4.4mm, Pitch 0.65mm, IPC Medium Density)
footprint PW16_L (TSOP, 16-Leads, Body 5x4.4mm, Pitch 0.65mm, IPC High Density)
footprint PW16_M (TSOP, 16-Leads, Body 5x4.4mm, Pitch 0.65mm, IPC Low Density)
pins: 1 A0 (in) "Address input. Connect directly to VCC or ground.", 2 A1 (in) "Address input. Connect directly to VCC or ground.", 3 ~{RESET} (in) "Active-low reset input. Connect to VCC  through a pullup resistor, if no active connection is used.", 4 P0 (io) "P-port input/output. Push-pull design structure.", 5 P1 (io) "P-port input/output. Push-pull design structure.", 6 P2 (io) "P-port input/output. Push-pull design structure.", 7 P3 (io) "P-port input/output. Push-pull design structure.", 8 GND (power) "Ground", 9 P4 (io) "P-port input/output. Push-pull design structure.", 10 P5 (io) "P-port input/output. Push-pull design structure.", 11 P6 (io) "P-port input/output. Push-pull design structure.", 12 P7 (io) "P-port input/output. Push-pull design structure.", 13 ~{INT} (oc) "Interrupt output. Connect to VCC through a pullup resistor.", 14 SCL (in) "Serial clock bus. Connect to VCC through a pullup resistor.", 15 SDA (io) "Serial data bus. Connect to VCC through a pullup resistor.", 16 VCC (power) "Supply voltage"

## PCA9538PWG4
designator U?
Remote 8-Bit I2C and SMBus Low-Power I/O Expander with Interrupt Output, Reset, and Config Registers, 2.3 to 5.5 V, -40 to 85 degC, 16-pin TSSOP (PW), Green (RoHS & no Sb/Br); Manufacturer: Texas Instruments; PartNumber: PCA9538PWG4; SubFamily: I2C IO Expander; Interrupt Output: Yes; Technology Family: I2C, SMBus; fSCLK(Max)(MHz): 0.1, 0.4; VCC(Min)(V): 2.3; VCC(Max)(V): 5.5; Max Frequency(kHz): 400; I2C Address: 1110 0xx; # of I/Os: 8; DatasheetVersion: SCPS126E; PackageVersion: revG, Feb-2011; PackageReference: PW16; PackageDescription: 16-Pin Plastic Thin Small Outline Package 5 x 4.4 mm Body ,0.65 mm Pitch; Supplier 1: Digi-Key; Supplier Part Number 1: PCA9538PWG4-ND; Supplier 2: Newark; Supplier Part Number 2: 20M5688; Supplier 3: Mouser; Supplier Part Number 3: 595-PCA9538PWG4; Eco-Plan: Green (RoHS & no Sb/Br); Reset Input: Yes; Vcc range(V): 2.3 to 5.5; Low Power: Yes; Configuration Registers: Yes; 5V Tolerant I/O: Yes; Push-Pull I/O Type: Yes; Mounting Technology: Surface Mount; Code_JEDEC: MO-153; ComponentLink1Description: Datasheet; ComponentLink1URL: http://www.ti.com/general/docs/lit/getliterature.tsp?genericPartNumber=PCA9538&fileType=pdf
footprint PW16_N (TSOP, 16-Leads, Body 5x4.4mm, Pitch 0.65mm, IPC Medium Density)
footprint PW16_L (TSOP, 16-Leads, Body 5x4.4mm, Pitch 0.65mm, IPC High Density)
footprint PW16_M (TSOP, 16-Leads, Body 5x4.4mm, Pitch 0.65mm, IPC Low Density)
pins: 1 A0 (in) "Address input. Connect directly to VCC or ground.", 2 A1 (in) "Address input. Connect directly to VCC or ground.", 3 ~{RESET} (in) "Active-low reset input. Connect to VCC  through a pullup resistor, if no active connection is used.", 4 P0 (io) "P-port input/output. Push-pull design structure.", 5 P1 (io) "P-port input/output. Push-pull design structure.", 6 P2 (io) "P-port input/output. Push-pull design structure.", 7 P3 (io) "P-port input/output. Push-pull design structure.", 8 GND (power) "Ground", 9 P4 (io) "P-port input/output. Push-pull design structure.", 10 P5 (io) "P-port input/output. Push-pull design structure.", 11 P6 (io) "P-port input/output. Push-pull design structure.", 12 P7 (io) "P-port input/output. Push-pull design structure.", 13 ~{INT} (oc) "Interrupt output. Connect to VCC through a pullup resistor.", 14 SCL (in) "Serial clock bus. Connect to VCC through a pullup resistor.", 15 SDA (io) "Serial data bus. Connect to VCC through a pullup resistor.", 16 VCC (power) "Supply voltage"

## PCA9538PWR
designator U?
Remote 8-Bit I2C and SMBus Low-Power I/O Expander with Interrupt Output, Reset, and Config Registers, 2.3 to 5.5 V, -40 to 85 degC, 16-pin TSSOP (PW), Green (RoHS & no Sb/Br); Manufacturer: Texas Instruments; PartNumber: PCA9538PWR; SubFamily: I2C IO Expander; Interrupt Output: Yes; Technology Family: I2C, SMBus; fSCLK(Max)(MHz): 0.1, 0.4; VCC(Min)(V): 2.3; VCC(Max)(V): 5.5; Max Frequency(kHz): 400; I2C Address: 1110 0xx; # of I/Os: 8; DatasheetVersion: SCPS126E; PackageVersion: revG, Feb-2011; PackageReference: PW16; PackageDescription: 16-Pin Plastic Thin Small Outline Package 5 x 4.4 mm Body ,0.65 mm Pitch; Supplier 1: Digi-Key; Supplier Part Number 1: 296-21769-2-ND; Supplier 2: Digi-Key; Supplier Part Number 2: 296-21769-1-ND; Supplier 3: Digi-Key; Supplier Part Number 3: 296-21769-6-ND; Supplier 4: Newark; Supplier Part Number 4: 18M7522; Supplier 5: Mouser; Supplier Part Number 5: 595-PCA9538PWR; Eco-Plan: Green (RoHS & no Sb/Br); Reset Input: Yes; Vcc range(V): 2.3 to 5.5; Low Power: Yes; Configuration Registers: Yes; 5V Tolerant I/O: Yes; Push-Pull I/O Type: Yes; Mounting Technology: Surface Mount; Code_JEDEC: MO-153; ComponentLink1Description: Datasheet; ComponentLink1URL: http://www.ti.com/general/docs/lit/getliterature.tsp?genericPartNumber=PCA9538&fileType=pdf
footprint PW16_N (TSOP, 16-Leads, Body 5x4.4mm, Pitch 0.65mm, IPC Medium Density)
footprint PW16_L (TSOP, 16-Leads, Body 5x4.4mm, Pitch 0.65mm, IPC High Density)
footprint PW16_M (TSOP, 16-Leads, Body 5x4.4mm, Pitch 0.65mm, IPC Low Density)
pins: 1 A0 (in) "Address input. Connect directly to VCC or ground.", 2 A1 (in) "Address input. Connect directly to VCC or ground.", 3 ~{RESET} (in) "Active-low reset input. Connect to VCC  through a pullup resistor, if no active connection is used.", 4 P0 (io) "P-port input/output. Push-pull design structure.", 5 P1 (io) "P-port input/output. Push-pull design structure.", 6 P2 (io) "P-port input/output. Push-pull design structure.", 7 P3 (io) "P-port input/output. Push-pull design structure.", 8 GND (power) "Ground", 9 P4 (io) "P-port input/output. Push-pull design structure.", 10 P5 (io) "P-port input/output. Push-pull design structure.", 11 P6 (io) "P-port input/output. Push-pull design structure.", 12 P7 (io) "P-port input/output. Push-pull design structure.", 13 ~{INT} (oc) "Interrupt output. Connect to VCC through a pullup resistor.", 14 SCL (in) "Serial clock bus. Connect to VCC through a pullup resistor.", 15 SDA (io) "Serial data bus. Connect to VCC through a pullup resistor.", 16 VCC (power) "Supply voltage"

## PCA9538PWRG4
designator U?
Remote 8-Bit I2C and SMBus Low-Power I/O Expander with Interrupt Output, Reset, and Config Registers, 2.3 to 5.5 V, -40 to 85 degC, 16-pin TSSOP (PW), Green (RoHS & no Sb/Br); Manufacturer: Texas Instruments; PartNumber: PCA9538PWRG4; SubFamily: I2C IO Expander; Interrupt Output: Yes; Technology Family: I2C, SMBus; fSCLK(Max)(MHz): 0.1, 0.4; VCC(Min)(V): 2.3; VCC(Max)(V): 5.5; Max Frequency(kHz): 400; I2C Address: 1110 0xx; # of I/Os: 8; DatasheetVersion: SCPS126E; PackageVersion: revG, Feb-2011; PackageReference: PW16; PackageDescription: 16-Pin Plastic Thin Small Outline Package 5 x 4.4 mm Body ,0.65 mm Pitch; Supplier 1: Digi-Key; Supplier Part Number 1: PCA9538PWRG4-ND; Supplier 2: Newark; Supplier Part Number 2: 20M5689; Supplier 3: Mouser; Supplier Part Number 3: 595-PCA9538PWRG4; Eco-Plan: Green (RoHS & no Sb/Br); Reset Input: Yes; Vcc range(V): 2.3 to 5.5; Low Power: Yes; Configuration Registers: Yes; 5V Tolerant I/O: Yes; Push-Pull I/O Type: Yes; Mounting Technology: Surface Mount; Code_JEDEC: MO-153; ComponentLink1Description: Datasheet; ComponentLink1URL: http://www.ti.com/general/docs/lit/getliterature.tsp?genericPartNumber=PCA9538&fileType=pdf
footprint PW16_N (TSOP, 16-Leads, Body 5x4.4mm, Pitch 0.65mm, IPC Medium Density)
footprint PW16_L (TSOP, 16-Leads, Body 5x4.4mm, Pitch 0.65mm, IPC High Density)
footprint PW16_M (TSOP, 16-Leads, Body 5x4.4mm, Pitch 0.65mm, IPC Low Density)
pins: 1 A0 (in) "Address input. Connect directly to VCC or ground.", 2 A1 (in) "Address input. Connect directly to VCC or ground.", 3 ~{RESET} (in) "Active-low reset input. Connect to VCC  through a pullup resistor, if no active connection is used.", 4 P0 (io) "P-port input/output. Push-pull design structure.", 5 P1 (io) "P-port input/output. Push-pull design structure.", 6 P2 (io) "P-port input/output. Push-pull design structure.", 7 P3 (io) "P-port input/output. Push-pull design structure.", 8 GND (power) "Ground", 9 P4 (io) "P-port input/output. Push-pull design structure.", 10 P5 (io) "P-port input/output. Push-pull design structure.", 11 P6 (io) "P-port input/output. Push-pull design structure.", 12 P7 (io) "P-port input/output. Push-pull design structure.", 13 ~{INT} (oc) "Interrupt output. Connect to VCC through a pullup resistor.", 14 SCL (in) "Serial clock bus. Connect to VCC through a pullup resistor.", 15 SDA (io) "Serial data bus. Connect to VCC through a pullup resistor.", 16 VCC (power) "Supply voltage"

## PCA9539DB
designator U?
Remote 16-Bit I2C and SMBus, Low-Power I/O Expander with Interrupt Output, Reset & Config. Registers, 2.3 to 5.5 V, -40 to 85 degC, 24-pin SSOP (DB), Green (RoHS & no Sb/Br); Manufacturer: Texas Instruments; PartNumber: PCA9539DB; SubFamily: I2C IO Expander; No. of Outputs: 2; Interrupt Output: Yes; fSCLK(Max)(MHz): 400; VCC(Min)(V): 2.3; VCC(Max)(V): 5.5; I2C Address: 1110 1xx; # of I/Os: 16; DatasheetVersion: SCPS130F; PackageVersion: revE, Dec-2001; PackageReference: DB24; PackageDescription: 24-Pin Plastic Small Outline Package, 8.2 x 5.3 mm Body, 0.65 mm Pitch; Supplier 1: Digi-Key; Supplier Part Number 1: PCA9539DB-ND; Supplier 2: Mouser; Supplier Part Number 2: 595-PCA9539DB; Eco-Plan: Green (RoHS & no Sb/Br); Reset Input: Yes; Max Frequency(kHz): 400; Vcc range(V): 2.3 to 5.5; Low Power: Yes; Configuration Registers: Yes; 5V Tolerant I/O: Yes; Push-Pull I/O Type: Yes; Mounting Technology: Surface Mount; Code_JEDEC: MO-150; ComponentLink1Description: Datasheet; ComponentLink1URL: http://www.ti.com/general/docs/lit/getliterature.tsp?genericPartNumber=PCA9539&fileType=pdf; ComponentLink2Description: Package Specification; ComponentLink2URL: http://www.ti.com/litv/pdf/msso002e
footprint DB24_N (SOP, 24-Leads, Body 8.2x5.3mm, Pitch 0.65mm, IPC Medium Density)
footprint DB24_L (SOP, 24-Leads, Body 8.2x5.3mm, Pitch 0.65mm, IPC High Density)
footprint DB24_M (SOP, 24-Leads, Body 8.2x5.3mm, Pitch 0.65mm, IPC Low Density)
pins: 1 ~{INT} (oc) "Interrupt output. Connect to VCC through a pullup resistor.", 2 A1 (in) "Address input. Connect directly to VCC or ground.", 3 ~{RESET} (in) "Active-low reset input. Connect to VCC through a pullup resistor if no active connection is used.", 4 P00 (io) "P-port input/output. Push-pull design structure", 5 P01 (io) "P-port input/output. Push-pull design structure.", 6 P02 (io) "P-port input/output. Push-pull design structure.", 7 P03 (io) "P-port input/output. Push-pull design structure.", 8 P04 (io) "P-port input/output. Push-pull design structure.", 9 P05 (io) "P-port input/output. Push-pull design structure.", 10 P06 (io) "P-port input/output. Push-pull design structure.", 11 P07 (io) "P-port input/output. Push-pull design structure.", 12 GND (power) "Ground", 13 P10 (io) "P-port input/output. Push-pull design structure.", 14 P11 (io) "P-port input/output. Push-pull design structure.", 15 P12 (io) "P-port input/output. Push-pull design structure.", 16 P13 (io) "P-port input/output. Push-pull design structure.", 17 P14 (io) "P-port input/output. Push-pull design structure.", 18 P15 (io) "P-port input/output. Push-pull design structure.", 19 P16 (io) "P-port input/output. Push-pull design structure.", 20 P17 (io) "P-port input/output. Push-pull design structure.", 21 A0 (in) "Address input. Connect directly to VCC or ground.", 22 SCL (in) "Serial clock bus. Connect to VCC through a pullup resistor", 23 SDA (io) "Serial data bus. Connect to VCC through a pullup resistor.", 24 VCC (power) "Supply voltage"

## PCA9539DBG4
designator U?
Remote 16-Bit I2C and SMBus, Low-Power I/O Expander with Interrupt Output, Reset & Config. Registers, 2.3 to 5.5 V, -40 to 85 degC, 24-pin SSOP (DB), Green (RoHS & no Sb/Br); Manufacturer: Texas Instruments; PartNumber: PCA9539DBG4; SubFamily: I2C IO Expander; No. of Outputs: 2; Interrupt Output: Yes; fSCLK(Max)(MHz): 400; VCC(Min)(V): 2.3; VCC(Max)(V): 5.5; I2C Address: 1110 1xx; # of I/Os: 16; DatasheetVersion: SCPS130F; PackageVersion: revE, Dec-2001; PackageReference: DB24; PackageDescription: 24-Pin Plastic Small Outline Package, 8.2 x 5.3 mm Body, 0.65 mm Pitch; Supplier 1: Digi-Key; Supplier Part Number 1: PCA9539DBG4-ND; Supplier 2: Mouser; Supplier Part Number 2: 595-PCA9539DBG4; Eco-Plan: Green (RoHS & no Sb/Br); Reset Input: Yes; Max Frequency(kHz): 400; Vcc range(V): 2.3 to 5.5; Low Power: Yes; Configuration Registers: Yes; 5V Tolerant I/O: Yes; Push-Pull I/O Type: Yes; Mounting Technology: Surface Mount; Code_JEDEC: MO-150; ComponentLink1Description: Datasheet; ComponentLink1URL: http://www.ti.com/general/docs/lit/getliterature.tsp?genericPartNumber=PCA9539&fileType=pdf; ComponentLink2Description: Package Specification; ComponentLink2URL: http://www.ti.com/litv/pdf/msso002e
footprint DB24_N (SOP, 24-Leads, Body 8.2x5.3mm, Pitch 0.65mm, IPC Medium Density)
footprint DB24_L (SOP, 24-Leads, Body 8.2x5.3mm, Pitch 0.65mm, IPC High Density)
footprint DB24_M (SOP, 24-Leads, Body 8.2x5.3mm, Pitch 0.65mm, IPC Low Density)
pins: 1 ~{INT} (oc) "Interrupt output. Connect to VCC through a pullup resistor.", 2 A1 (in) "Address input. Connect directly to VCC or ground.", 3 ~{RESET} (in) "Active-low reset input. Connect to VCC through a pullup resistor if no active connection is used.", 4 P00 (io) "P-port input/output. Push-pull design structure", 5 P01 (io) "P-port input/output. Push-pull design structure.", 6 P02 (io) "P-port input/output. Push-pull design structure.", 7 P03 (io) "P-port input/output. Push-pull design structure.", 8 P04 (io) "P-port input/output. Push-pull design structure.", 9 P05 (io) "P-port input/output. Push-pull design structure.", 10 P06 (io) "P-port input/output. Push-pull design structure.", 11 P07 (io) "P-port input/output. Push-pull design structure.", 12 GND (power) "Ground", 13 P10 (io) "P-port input/output. Push-pull design structure.", 14 P11 (io) "P-port input/output. Push-pull design structure.", 15 P12 (io) "P-port input/output. Push-pull design structure.", 16 P13 (io) "P-port input/output. Push-pull design structure.", 17 P14 (io) "P-port input/output. Push-pull design structure.", 18 P15 (io) "P-port input/output. Push-pull design structure.", 19 P16 (io) "P-port input/output. Push-pull design structure.", 20 P17 (io) "P-port input/output. Push-pull design structure.", 21 A0 (in) "Address input. Connect directly to VCC or ground.", 22 SCL (in) "Serial clock bus. Connect to VCC through a pullup resistor", 23 SDA (io) "Serial data bus. Connect to VCC through a pullup resistor.", 24 VCC (power) "Supply voltage"

## PCA9539DBQR
designator U?
Remote 16-Bit I2C and SMBus, Low-Power I/O Expander with Interrupt Output, Reset & Config. Register, 2.3 to 5.5 V, -40 to 85 degC, 24-pin SSOP (DBQ), Green (RoHS & no Sb/Br); Manufacturer: Texas Instruments; PartNumber: PCA9539DBQR; SubFamily: I2C IO Expander; No. of Outputs: 2; Interrupt Output: Yes; fSCLK(Max)(MHz): 400; VCC(Min)(V): 2.3; VCC(Max)(V): 5.5; I2C Address: 1110 1xx; # of I/Os: 16; DatasheetVersion: SCPS130F; PackageVersion: revH, Oct-2008; PackageReference: DBQ24; PackageDescription: 24-Pin Small Outline Package 0.635 mm Pitch; Supplier 1: Digi-Key; Supplier Part Number 1: 296-19266-2-ND; Supplier 2: Digi-Key; Supplier Part Number 2: 296-19266-1-ND; Supplier 3: Digi-Key; Supplier Part Number 3: 296-19266-6-ND; Supplier 4: Newark; Supplier Part Number 4: 63K6056; Supplier 5: Mouser; Supplier Part Number 5: 595-PCA9539DBQR; Eco-Plan: Green (RoHS & no Sb/Br); Reset Input: Yes; Max Frequency(kHz): 400; Vcc range(V): 2.3 to 5.5; Low Power: Yes; Configuration Registers: Yes; 5V Tolerant I/O: Yes; Push-Pull I/O Type: Yes; Mounting Technology: Surface Mount; Code_JEDEC: MO-137-AE; ComponentLink1Description: Datasheet; ComponentLink1URL: http://www.ti.com/general/docs/lit/getliterature.tsp?genericPartNumber=PCA9539&fileType=pdf; ComponentLink2Description: Package Specification; ComponentLink2URL: http://www.ti.com/litv/pdf/mpds211a
footprint DBQ024_N (SOP, 24-Leads, Body 8.7x3.9mm, Pitch 0.635mm, IPC Medium Density)
footprint DBQ024_L (SOP, 24-Leads, Body 8.7x3.9mm, Pitch 0.635mm, IPC High Density)
footprint DBQ024_M (SOP, 24-Leads, Body 8.7x3.9mm, Pitch 0.635mm, IPC Low Density)
pins: 1 ~{INT} (oc) "Interrupt output. Connect to VCC through a pullup resistor.", 2 A1 (in) "Address input. Connect directly to VCC or ground.", 3 ~{RESET} (in) "Active-low reset input. Connect to VCC through a pullup resistor if no active connection is used.", 4 P00 (io) "P-port input/output. Push-pull design structure.", 5 P01 (io) "P-port input/output. Push-pull design structure.", 6 P02 (io) "P-port input/output. Push-pull design structure.", 7 P03 (io) "P-port input/output. Push-pull design structure.", 8 P04 (io) "P-port input/output. Push-pull design structure.", 9 P05 (io) "P-port input/output. Push-pull design structure.", 10 P06 (io) "P-port input/output. Push-pull design structure.", 11 P07 (io) "P-port input/output. Push-pull design structure.", 12 GND (power) "Ground", 13 P10 (io) "P-port input/output. Push-pull design structure.", 14 P11 (io) "P-port input/output. Push-pull design structure.", 15 P12 (io) "P-port input/output. Push-pull design structure.", 16 P13 (io) "P-port input/output. Push-pull design structure.", 17 P14 (io) "P-port input/output. Push-pull design structure.", 18 P15 (io) "P-port input/output. Push-pull design structure.", 19 P16 (io) "P-port input/output. Push-pull design structure.", 20 P17 (io) "P-port input/output. Push-pull design structure.", 21 A0 (in) "Address input. Connect directly to VCC or ground", 22 SCL (in) "Serial clock bus. Connect to VCC through a pullup resistor.", 23 SDA (io) "Serial data bus. Connect to VCC through a pullup resistor.", 24 VCC (power) "Supply voltage"